# Altium footprint library XC6220B331PR-G_PCB.PcbLib: 23 footprints (part 2 of 2)
Each footprint in its own frame and in the unit in brackets; x right, y up, seen from the top. Pads: shape width x height; smd on the part's side, far side on the other; paste and mask are expansions set on the pad; w line width, h text height; cw(c..) or ccw(c..) is an arc to the next point about the centre after c.
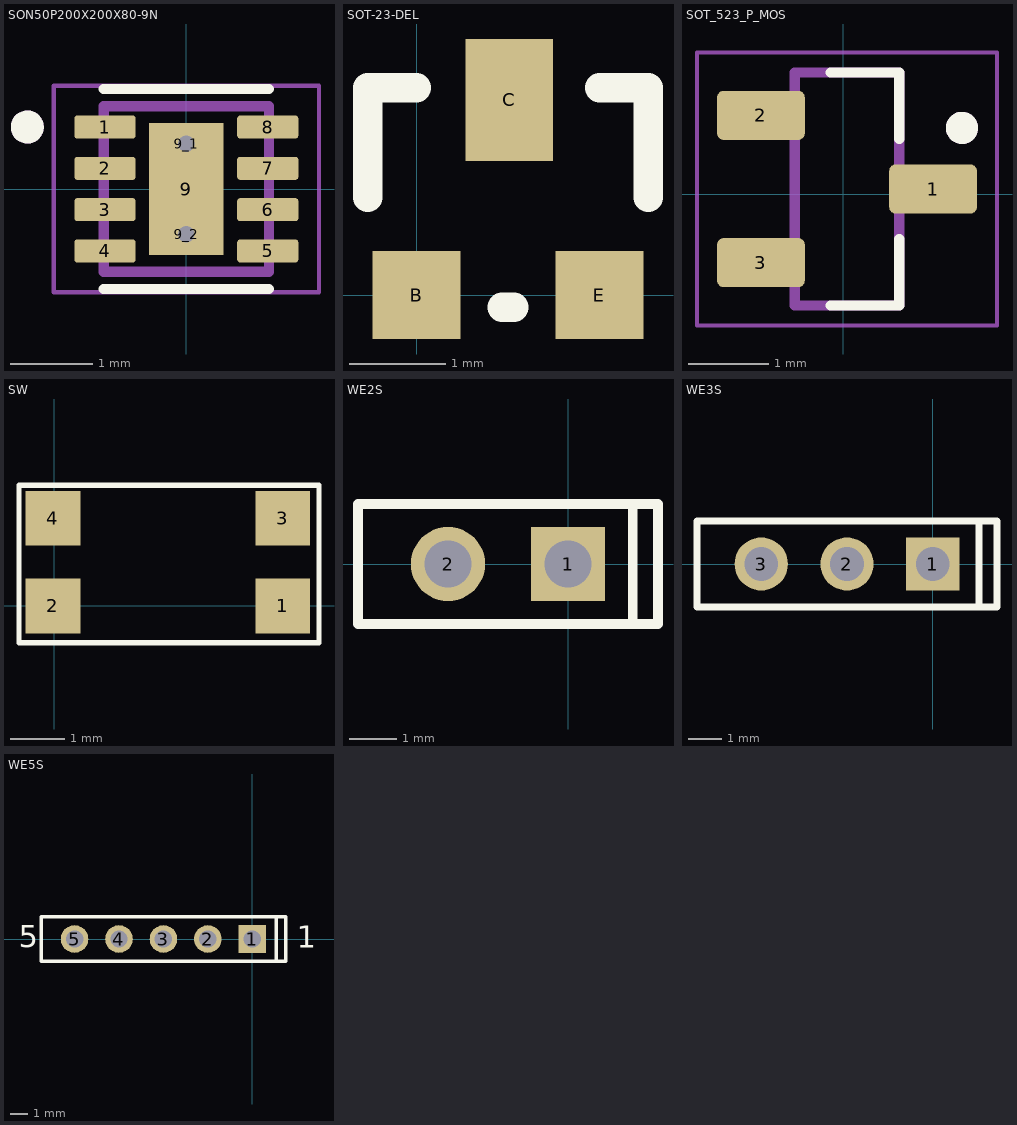
[diagram p1: the footprints below, top view; thin cyan lines are the x and y axes]

## SON50P200X200X80-9N [mm]
pads (11):
  rrect25% 0.74x0.28 smd: 1(-0.985,0.75) 2(-0.985,0.25) 3(-0.985,-0.25) 4(-0.985,-0.75) 5(0.985,-0.75) 6(0.985,-0.25) 7(0.985,0.25) 8(0.985,0.75)
  rect 0.9x1.6 smd paste-2: 9(0,0)
  round 0.4 hole 0.2 mask+0: 9_1(0,0.55) 9_2(0,-0.55)
Top Overlay:
  circle w0.2: c-1.925,0.75 r0.1
  lines w0.127: -1,-1.21 1,-1.21 ; -1,1.21 1,1.21
Top Paste:
  region: 0.28,-0.51 -0.28,-0.51 -0.28,0.51 0.28,0.51
Mechanical 13:
  circle w0.2: c-1.925,0.75 r0.1
  lines w0.127: -1,-1 -1,1 1,1 1,-1 -1,-1
Mechanical 15:
  lines w0.05: -1.605,-1.25 -1.605,1.25 1.605,1.25 1.605,-1.25 -1.605,-1.25

## SOT-23-DEL [mil]
pads (3):
  rect 36x36 smd: B(0,0) E(75,0)
  rect 36x50 smd: C(38,80)
Top Overlay:
  lines w12: -20,40 -20,85 0,85 ; 35,-5 40,-5 ; 75,85 95,85 95,40

## SOT_523_P_MOS [mm]
pads (3):
  rrect25% 1.09x0.61 smd: 1(1.115,0.065) 2(-1.025,0.98) 3(-1.025,-0.85)
Top Overlay:
  circle w0.2: c1.475,0.825 r0.1
  lines w0.127: -0.16,-1.385 0.695,-1.385 0.695,-0.56 ; -0.16,1.515 0.695,1.515 0.695,0.69
Mechanical 13:
  circle w0.2: c1.475,0.825 r0.1
  lines w0.127: -0.605,-1.385 -0.605,1.515 0.695,1.515 0.695,-1.385 -0.605,-1.385
Mechanical 15:
  lines w0.05: -1.82,-1.635 1.91,-1.635 1.91,1.765 -1.82,1.765 -1.82,-1.635

## SW [mm]
pads (4):
  rect 1x1 smd: 1(4.18,0) 2(-0.02,0) 3(4.18,1.6) 4(-0.02,1.6)
Top Overlay:
  lines w0.1: -0.64,-0.67 4.84,-0.67 4.84,2.2 -0.64,2.2 -0.64,-0.67

## WE2S [mil]
pads (2):
  rect 62x62 hole 39.37: 1(0,0)
  round 62 hole 39.37: 2(-100,0)
Top Overlay:
  lines w8: 54,-49 54,50 ; -175,-50 -175,50 75,50 75,-50 -175,-50

## WE3S [mil]
pads (3):
  rect 62x62 hole 39.37: 1(0,0)
  round 62 hole 39.37: 2(-100,0) 3(-200,0)
Top Overlay:
  lines w8: 54,-49 54,50 ; -275,-50 75,-50 75,50 -275,50 -275,-50

## WE5S [mil]
pads (5):
  rect 62x62 hole 39.37: 1(0,0)
  round 62 hole 39.37: 2(-100,0) 3(-200,0) 4(-300,0) 5(-400,0)
Top Overlay:
  lines w8: 54,-49 54,50 ; -475,-50 -475,50 75,50 75,-50 -475,-50
  text "5" at -525,-18 h50
  text "1" at 100,-20 h50